# EAGLE library part AS6C1608 (library dooba)
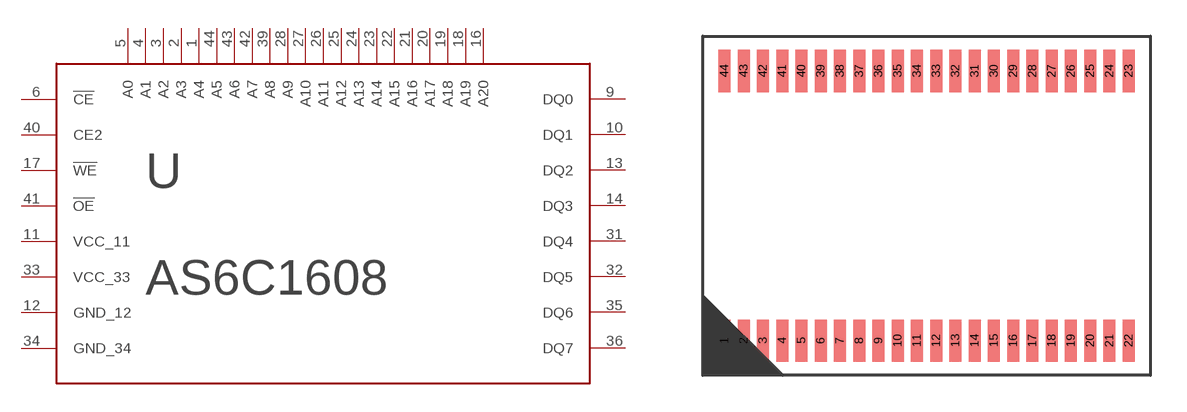
[diagram p5: symbol with the pads of TSOPII-44; footprint TSOPII-44]

Designator prefix U

## AS6C1608TSOPII-44  [TSOPII-44]
1  A4
2  A3
3  A2
4  A1
5  A0
6  !CE
9  DQ0
10  DQ1
11  VCC_11
12  GND_12
13  DQ2
14  DQ3
16  A20
17  !WE
18  A19
19  A18
20  A17
21  A16
22  A15
23  A14
24  A13
25  A12
26  A11
27  A10
28  A9
31  DQ4
32  DQ5
33  VCC_33
34  GND_34
35  DQ6
36  DQ7
39  A8
40  CE2
41  !OE
42  A7
43  A6
44  A5

## Footprint TSOPII-44 (pad centres in mm)
smd 0.5 x 1.75: 1 -8.4,-5.6; 2 -7.6,-5.6; 3 -6.8,-5.6; 4 -6,-5.6; 5 -5.2,-5.6; 6 -4.4,-5.6; 7 -3.6,-5.6; 8 -2.8,-5.6; 9 -2,-5.6; 10 -1.2,-5.6; 11 -0.4,-5.6; 12 0.4,-5.6; 13 1.2,-5.6; 14 2,-5.6; 15 2.8,-5.6; 16 3.6,-5.6; 17 4.4,-5.6; 18 5.2,-5.6; 19 6,-5.6; 20 6.8,-5.6; 21 7.6,-5.6; 22 8.4,-5.6; 23 8.4,5.6; 24 7.6,5.6; 25 6.8,5.6; 26 6,5.6; 27 5.2,5.6; 28 4.4,5.6; 29 3.6,5.6; 30 2.8,5.6; 31 2,5.6; 32 1.2,5.6; 33 0.4,5.6; 34 -0.4,5.6; 35 -1.2,5.6; 36 -2,5.6; 37 -2.8,5.6; 38 -3.6,5.6; 39 -4.4,5.6; 40 -5.2,5.6; 41 -6,5.6; 42 -6.8,5.6; 43 -7.6,5.6; 44 -8.4,5.6